# EAGLE library part MQS-8-967658 (library MotoRecoPico)
TE 1-967658-1 vehicle interface connector (MQS .63, 8 way, right angle). MotoRecoPico assignment: 3=IG 12V, 4=GND, 5=CAN Low, 6=CAN High, 8=12V permanent. Pins 1, 2, 7 unused.
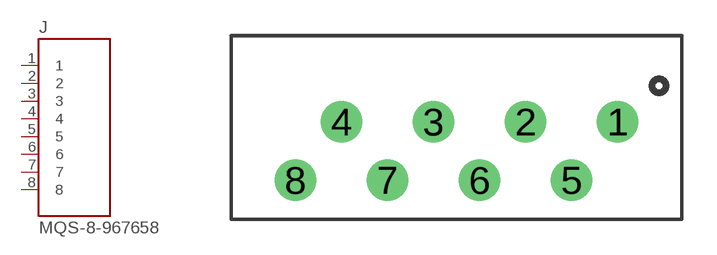
[diagram p0: symbol with the pads of MQS-8-RA-967658; footprint MQS-8-RA-967658]

Designator prefix J

## MQS-8-967658  [MQS-8-RA-967658]
1  1  pas
2  2  pas
3  3  pas
4  4  pas
5  5  pas
6  6  pas
7  7  pas
8  8  pas

## Footprint MQS-8-RA-967658 (pad centres in mm)
TE 1-967658-1 MQS .63 automotive header, 8 position, 2 rows, right angle, through hole. Origin is at the housing front reference line (drawing datum), on the connector centreline. Board edge should be placed at Y=0. Holes are at negative Y (into the board). Front hole row Y=-3.76: pins 4,3,2,1 at X=-5,-1,+3,+7 Rear hole row Y=-6.30: pins 8,7,6,5 at X=-7,-3,+1,+5 Drawing 967658 Rev.C3. Hole spec is 1.0mm minimum; 1.1mm drill used. Silkscreen body outline is indicative only - hole positions are the controlled dimensions.
drill 1.1 pad 1.8: 1 7,-3.76; 2 3,-3.76; 3 -1,-3.76; 4 -5,-3.76; 5 5,-6.3; 6 1,-6.3; 7 -3,-6.3; 8 -7,-6.3